# Altium footprint library QUTMS_DeutschPCB.PcbLib: 1 footprints
Each footprint in its own frame and in the unit in brackets; x right, y up, seen from the top. Pads: shape width x height; smd on the part's side, far side on the other; paste and mask are expansions set on the pad; w line width, h text height; cw(c..) or ccw(c..) is an arc to the next point about the centre after c.
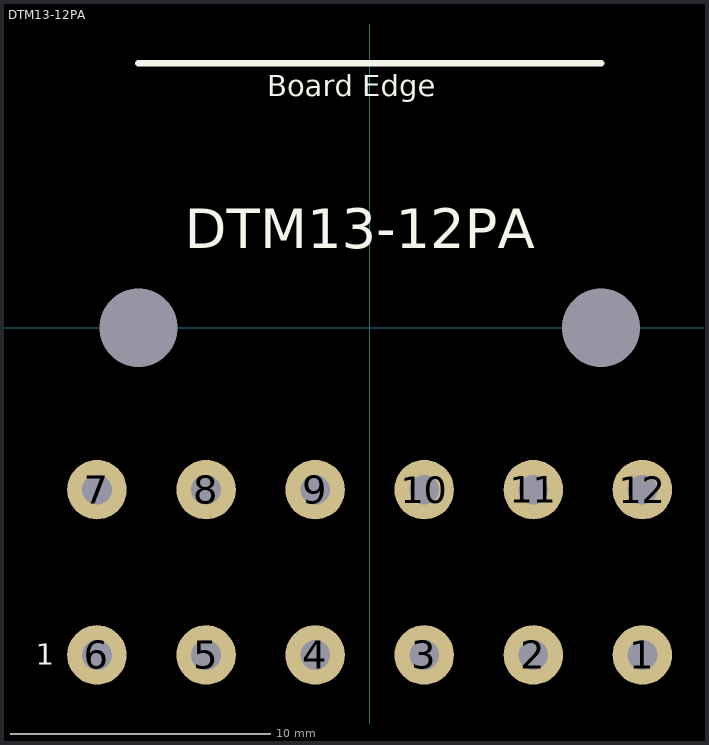
[diagram p0: the footprint, top view; thin cyan lines are the x and y axes]

## DTM13-12PA [mil]
pads (14):
  round 90 hole 45: 1(412.5,-495) 2(247.5,-495) 3(82.5,-495) 4(-82.5,-495) 5(-247.5,-495) 6(-412.5,-495) 7(-412.5,-245) 8(-247.5,-245) 9(-82.5,-245) 10(82.5,-245) 11(247.5,-245) 12(412.5,-245)
  round 0 hole 118.11 mask+39.37: NC(-350,0) NC(350,0)
Top Overlay:
  lines w10: -350,400 350,400
  text "1" at -505,-510 h32
  text "DTM13-12PA" at -280,120 h60
  text "Board Edge" at -155,350 h32
3D body "c-dtm13-12pa-99-3d.stp": height 1350, standoff -130, extent -1200,-590 1200,914.5